# Altium integrated library Panasonic Relays Power Relays (Over 2A).IntLib: 286 symbols (part 2 of 8)
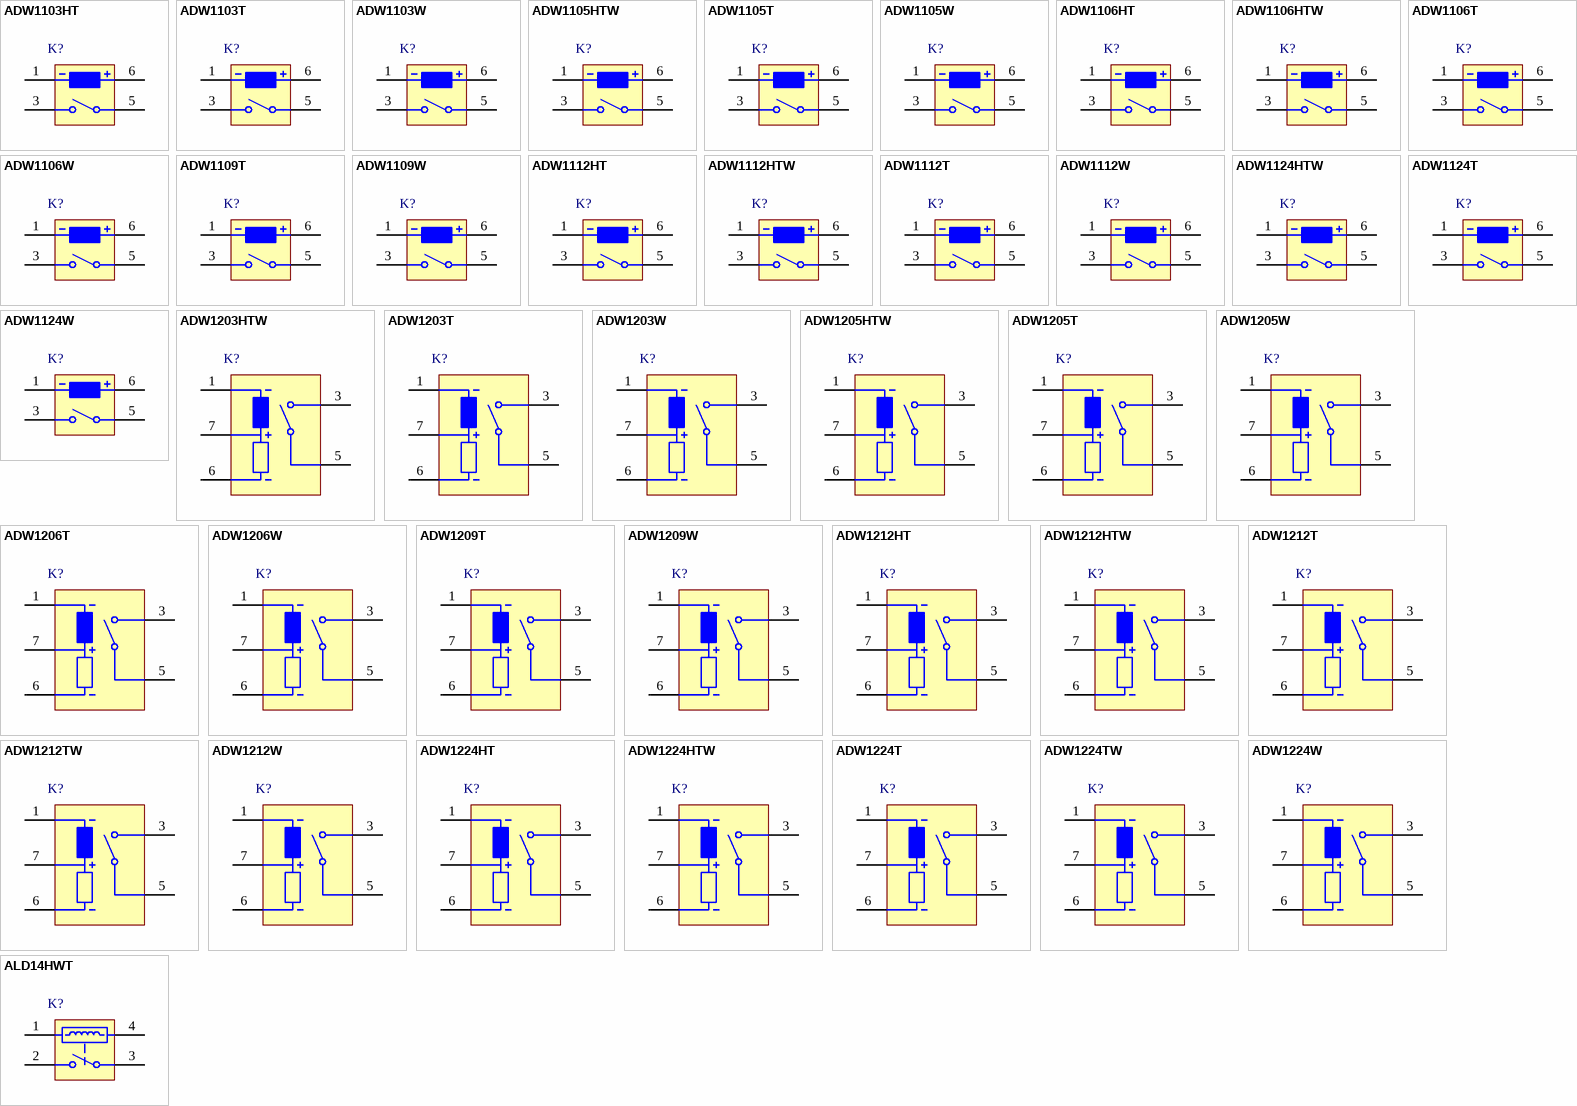
[diagram p8: symbols ADW1103HT to ALD14HWT]

## ALD14HWT
designator K?
LD Relays, 4.5 V Coil Voltage, 200 mW Nominal Operating Power, -40 to 70 degC, 4-Pin LD, Carton, Case, RoHS; Manufacturer: Panasonic; PartNumber: ALD14HWT; Coil Voltage: 4.5 V; Electrical Life: 2x10^5; Max Switching Current: 3 A; Max Switching Voltage: 277 V AC, 30 V DC; Mechanical Life(Min.operation): 5x10^6; Nominal Operating Power: 200 mW; Pb-Free: True; DatasheetVersion: 201309-T; PackageVersion: ASCTB192E, 09/2013; PackageReference: LD-4-2050x720x1530; PackageDescription: 4-Pin Through Hole Terminal Package, Body 20.5 x 7.2 mm; Packing: Carton, Case; RoHS: True; Series: LD Relays; Mounting Technology: Through Hole; ComponentLink1Description: Manufacturer URL; ComponentLink1URL: http://www3.panasonic.biz/ac/ae/index.jsp; ComponentLink2Description: Datasheet; ComponentLink2URL: http://www3.panasonic.biz/ac/e_download/control/relay/power/catalog/discon2014e_ld.pdf?f_cd=300232; ComponentLink3Description: Package Specification; ComponentLink3URL: http://www3.panasonic.biz/ac/e_download/control/relay/power/catalog/discon2014e_ld.pdf?f_cd=300232
footprint PNSC-LD-4-2050x720x1530_V (LD, 4-Leads, Body 20.5x7.2mm)
pins: 1, 2 NO, 3 COM, 4

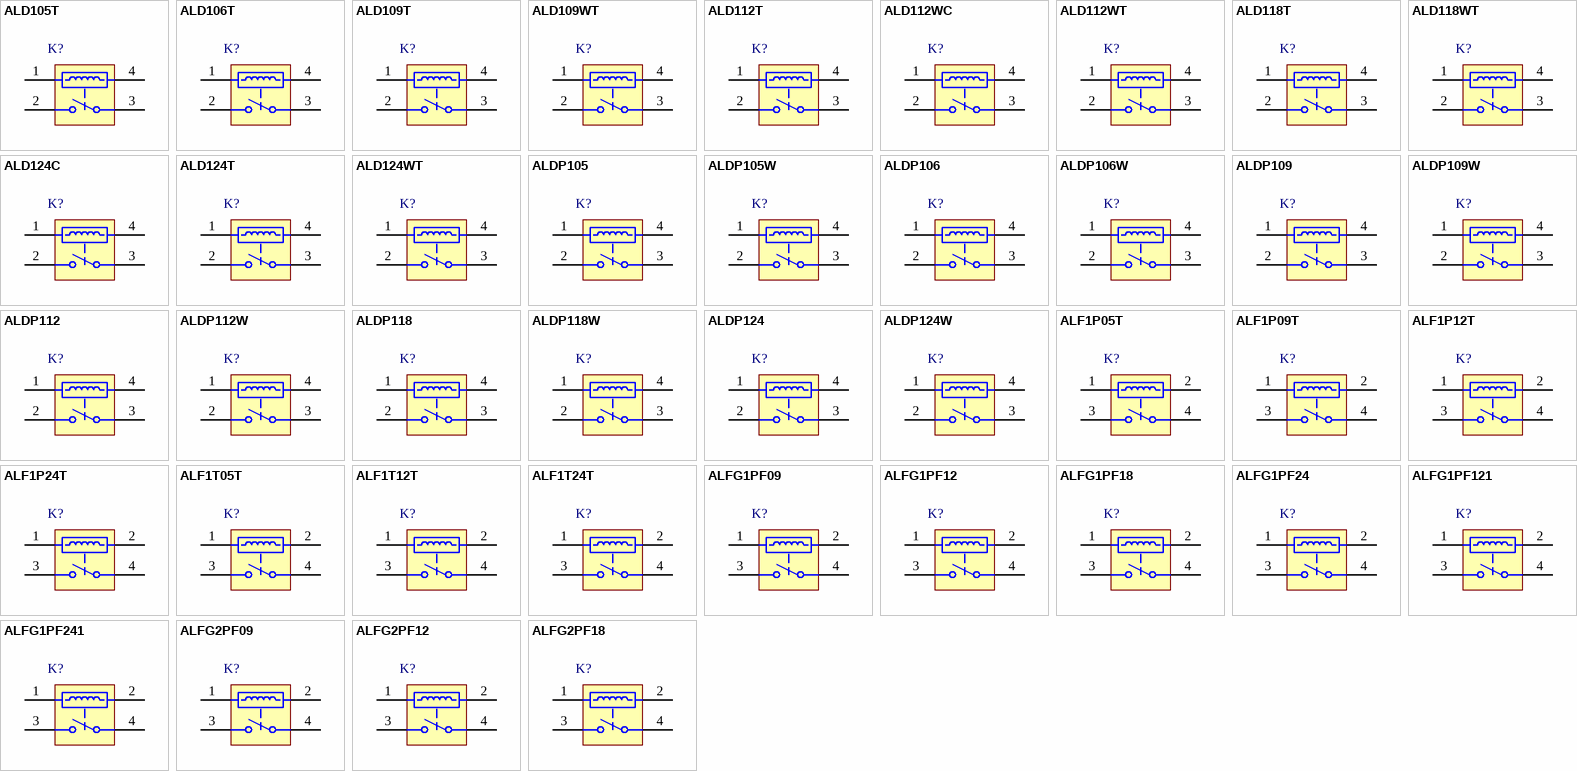
[diagram p1: symbols ALD105T to ALFG2PF18]

## ALD105T
designator K?
LD Relays, 5 V Coil Voltage, 200 mW Nominal Operating Power, -40 to 70 degC, 4-Pin LD, Carton, Case, RoHS; Manufacturer: Panasonic; PartNumber: ALD105T; Coil Voltage: 5 V; Electrical Life: 2x10^5; Max Switching Current: 3 A; Max Switching Voltage: 277 V AC, 30 V DC; Mechanical Life(Min.operation): 5x10^6; Nominal Operating Power: 200 mW; Pb-Free: True; DatasheetVersion: 201309-T; PackageVersion: ASCTB192E, 09/2013; PackageReference: LD-4-2050x720x1530; PackageDescription: 4-Pin Through Hole Terminal Package, Body 20.5 x 7.2 mm; Packing: Carton, Case; RoHS: True; Series: LD Relays; Mounting Technology: Through Hole; ComponentLink1Description: Manufacturer URL; ComponentLink1URL: http://www3.panasonic.biz/ac/ae/index.jsp; ComponentLink2Description: Datasheet; ComponentLink2URL: http://www3.panasonic.biz/ac/e_download/control/relay/power/catalog/discon2014e_ld.pdf?f_cd=300232; ComponentLink3Description: Package Specification; ComponentLink3URL: http://www3.panasonic.biz/ac/e_download/control/relay/power/catalog/discon2014e_ld.pdf?f_cd=300232
footprint PNSC-LD-4-2050x720x1530_V (LD, 4-Leads, Body 20.5x7.2mm)
pins: 1, 2 NO, 3 COM, 4

## ALD106T
designator K?
LD Relays, 6 V Coil Voltage, 200 mW Nominal Operating Power, -40 to 70 degC, 4-Pin LD, Carton, Case, RoHS; Manufacturer: Panasonic; PartNumber: ALD106T; Coil Voltage: 6 V; Electrical Life: 2x10^5; Max Switching Current: 3 A; Max Switching Voltage: 277 V AC, 30 V DC; Mechanical Life(Min.operation): 5x10^6; Nominal Operating Power: 200 mW; Pb-Free: True; DatasheetVersion: 201309-T; PackageVersion: ASCTB192E, 09/2013; PackageReference: LD-4-2050x720x1530; PackageDescription: 4-Pin Through Hole Terminal Package, Body 20.5 x 7.2 mm; Packing: Carton, Case; RoHS: True; Series: LD Relays; Mounting Technology: Through Hole; ComponentLink1Description: Manufacturer URL; ComponentLink1URL: http://www3.panasonic.biz/ac/ae/index.jsp; ComponentLink2Description: Datasheet; ComponentLink2URL: http://www3.panasonic.biz/ac/e_download/control/relay/power/catalog/discon2014e_ld.pdf?f_cd=300232; ComponentLink3Description: Package Specification; ComponentLink3URL: http://www3.panasonic.biz/ac/e_download/control/relay/power/catalog/discon2014e_ld.pdf?f_cd=300232
footprint PNSC-LD-4-2050x720x1530_V (LD, 4-Leads, Body 20.5x7.2mm)
pins: 1, 2 NO, 3 COM, 4

## ALD109T
designator K?
LD Relays, 9 V Coil Voltage, 200 mW Nominal Operating Power, -40 to 70 degC, 4-Pin LD, Carton, Case, RoHS; Manufacturer: Panasonic; PartNumber: ALD109T; Coil Voltage: 9 V; Electrical Life: 2x10^5; Max Switching Current: 3 A; Max Switching Voltage: 277 V AC, 30 V DC; Mechanical Life(Min.operation): 5x10^6; Nominal Operating Power: 200 mW; Pb-Free: True; DatasheetVersion: 201309-T; PackageVersion: ASCTB192E, 09/2013; PackageReference: LD-4-2050x720x1530; PackageDescription: 4-Pin Through Hole Terminal Package, Body 20.5 x 7.2 mm; Packing: Carton, Case; RoHS: True; Series: LD Relays; Mounting Technology: Through Hole; ComponentLink1Description: Manufacturer URL; ComponentLink1URL: http://www3.panasonic.biz/ac/ae/index.jsp; ComponentLink2Description: Datasheet; ComponentLink2URL: http://www3.panasonic.biz/ac/e_download/control/relay/power/catalog/discon2014e_ld.pdf?f_cd=300232; ComponentLink3Description: Package Specification; ComponentLink3URL: http://www3.panasonic.biz/ac/e_download/control/relay/power/catalog/discon2014e_ld.pdf?f_cd=300232
footprint PNSC-LD-4-2050x720x1530_V (LD, 4-Leads, Body 20.5x7.2mm)
pins: 1, 2 NO, 3 COM, 4

## ALD109WT
designator K?
LD Relays, 9 V Coil Voltage, 200 mW Nominal Operating Power, -40 to 70 degC, 4-Pin LD, Carton, Case, RoHS; Manufacturer: Panasonic; PartNumber: ALD109WT; Coil Voltage: 9 V; Electrical Life: 2x10^5; Max Switching Current: 3 A; Max Switching Voltage: 277 V AC, 30 V DC; Mechanical Life(Min.operation): 5x10^6; Nominal Operating Power: 200 mW; Pb-Free: True; DatasheetVersion: 201309-T; PackageVersion: ASCTB192E, 09/2013; PackageReference: LD-4-2050x720x1530; PackageDescription: 4-Pin Through Hole Terminal Package, Body 20.5 x 7.2 mm; Packing: Carton, Case; RoHS: True; Series: LD Relays; Mounting Technology: Through Hole; ComponentLink1Description: Manufacturer URL; ComponentLink1URL: http://www3.panasonic.biz/ac/ae/index.jsp; ComponentLink2Description: Datasheet; ComponentLink2URL: http://www3.panasonic.biz/ac/e_download/control/relay/power/catalog/discon2014e_ld.pdf?f_cd=300232; ComponentLink3Description: Package Specification; ComponentLink3URL: http://www3.panasonic.biz/ac/e_download/control/relay/power/catalog/discon2014e_ld.pdf?f_cd=300232
footprint PNSC-LD-4-2050x720x1530_V (LD, 4-Leads, Body 20.5x7.2mm)
pins: 1, 2 NO, 3 COM, 4

## ALD112T
designator K?
LD Relays, 12 V Coil Voltage, 200 mW Nominal Operating Power, -40 to 70 degC, 4-Pin LD, Carton, Case, RoHS; Manufacturer: Panasonic; PartNumber: ALD112T; Coil Voltage: 12 V; Electrical Life: 2x10^5; Max Switching Current: 3 A; Max Switching Voltage: 277 V AC, 30 V DC; Mechanical Life(Min.operation): 5x10^6; Nominal Operating Power: 200 mW; Pb-Free: True; DatasheetVersion: 201309-T; PackageVersion: ASCTB192E, 09/2013; PackageReference: LD-4-2050x720x1530; PackageDescription: 4-Pin Through Hole Terminal Package, Body 20.5 x 7.2 mm; Packing: Carton, Case; RoHS: True; Series: LD Relays; Mounting Technology: Through Hole; ComponentLink1Description: Manufacturer URL; ComponentLink1URL: http://www3.panasonic.biz/ac/ae/index.jsp; ComponentLink2Description: Datasheet; ComponentLink2URL: http://www3.panasonic.biz/ac/e_download/control/relay/power/catalog/discon2014e_ld.pdf?f_cd=300232; ComponentLink3Description: Package Specification; ComponentLink3URL: http://www3.panasonic.biz/ac/e_download/control/relay/power/catalog/discon2014e_ld.pdf?f_cd=300232
footprint PNSC-LD-4-2050x720x1530_V (LD, 4-Leads, Body 20.5x7.2mm)
pins: 1, 2 NO, 3 COM, 4

## ALD112WC
designator K?
LD Relays, 12 V Coil Voltage, 200 mW Nominal Operating Power, -40 to 70 degC, 4-Pin LD, Carton, Case, RoHS; Manufacturer: Panasonic; PartNumber: ALD112WC; Coil Voltage: 12 V; Electrical Life: 2x10^5; Max Switching Current: 3 A; Max Switching Voltage: 277 V AC, 30 V DC; Mechanical Life(Min.operation): 5x10^6; Nominal Operating Power: 200 mW; Pb-Free: True; DatasheetVersion: 201309-T; PackageVersion: ASCTB192E, 09/2013; PackageReference: LD-4-2050x720x1530; PackageDescription: 4-Pin Through Hole Terminal Package, Body 20.5 x 7.2 mm; Packing: Carton, Case; RoHS: True; Series: LD Relays; Mounting Technology: Through Hole; ComponentLink1Description: Manufacturer URL; ComponentLink1URL: http://www3.panasonic.biz/ac/ae/index.jsp; ComponentLink2Description: Datasheet; ComponentLink2URL: http://www3.panasonic.biz/ac/e_download/control/relay/power/catalog/discon2014e_ld.pdf?f_cd=300232; ComponentLink3Description: Package Specification; ComponentLink3URL: http://www3.panasonic.biz/ac/e_download/control/relay/power/catalog/discon2014e_ld.pdf?f_cd=300232
footprint PNSC-LD-4-2050x720x1530_V (LD, 4-Leads, Body 20.5x7.2mm)
pins: 1, 2 NO, 3 COM, 4

## ALD112WT
designator K?
LD Relays, 12 V Coil Voltage, 200 mW Nominal Operating Power, -40 to 70 degC, 4-Pin LD, Carton, Case, RoHS; Manufacturer: Panasonic; PartNumber: ALD112WT; Coil Voltage: 12 V; Electrical Life: 2x10^5; Max Switching Current: 3 A; Max Switching Voltage: 277 V AC, 30 V DC; Mechanical Life(Min.operation): 5x10^6; Nominal Operating Power: 200 mW; Pb-Free: True; DatasheetVersion: 201309-T; PackageVersion: ASCTB192E, 09/2013; PackageReference: LD-4-2050x720x1530; PackageDescription: 4-Pin Through Hole Terminal Package, Body 20.5 x 7.2 mm; Packing: Carton, Case; RoHS: True; Series: LD Relays; Mounting Technology: Through Hole; ComponentLink1Description: Manufacturer URL; ComponentLink1URL: http://www3.panasonic.biz/ac/ae/index.jsp; ComponentLink2Description: Datasheet; ComponentLink2URL: http://www3.panasonic.biz/ac/e_download/control/relay/power/catalog/discon2014e_ld.pdf?f_cd=300232; ComponentLink3Description: Package Specification; ComponentLink3URL: http://www3.panasonic.biz/ac/e_download/control/relay/power/catalog/discon2014e_ld.pdf?f_cd=300232
footprint PNSC-LD-4-2050x720x1530_V (LD, 4-Leads, Body 20.5x7.2mm)
pins: 1, 2 NO, 3 COM, 4

## ALD118T
designator K?
LD Relays, 18 V Coil Voltage, 200 mW Nominal Operating Power, -40 to 70 degC, 4-Pin LD, Carton, Case, RoHS; Manufacturer: Panasonic; PartNumber: ALD118T; Coil Voltage: 18 V; Electrical Life: 2x10^5; Max Switching Current: 3 A; Max Switching Voltage: 277 V AC, 30 V DC; Mechanical Life(Min.operation): 5x10^6; Nominal Operating Power: 200 mW; Pb-Free: True; DatasheetVersion: 201309-T; PackageVersion: ASCTB192E, 09/2013; PackageReference: LD-4-2050x720x1530; PackageDescription: 4-Pin Through Hole Terminal Package, Body 20.5 x 7.2 mm; Packing: Carton, Case; RoHS: True; Series: LD Relays; Mounting Technology: Through Hole; ComponentLink1Description: Manufacturer URL; ComponentLink1URL: http://www3.panasonic.biz/ac/ae/index.jsp; ComponentLink2Description: Datasheet; ComponentLink2URL: http://www3.panasonic.biz/ac/e_download/control/relay/power/catalog/discon2014e_ld.pdf?f_cd=300232; ComponentLink3Description: Package Specification; ComponentLink3URL: http://www3.panasonic.biz/ac/e_download/control/relay/power/catalog/discon2014e_ld.pdf?f_cd=300232
footprint PNSC-LD-4-2050x720x1530_V (LD, 4-Leads, Body 20.5x7.2mm)
pins: 1, 2 NO, 3 COM, 4

## ALD118WT
designator K?
LD Relays, 18 V Coil Voltage, 200 mW Nominal Operating Power, -40 to 70 degC, 4-Pin LD, Carton, Case, RoHS; Manufacturer: Panasonic; PartNumber: ALD118WT; Coil Voltage: 18 V; Electrical Life: 2x10^5; Max Switching Current: 3 A; Max Switching Voltage: 277 V AC, 30 V DC; Mechanical Life(Min.operation): 5x10^6; Nominal Operating Power: 200 mW; Pb-Free: True; DatasheetVersion: 201309-T; PackageVersion: ASCTB192E, 09/2013; PackageReference: LD-4-2050x720x1530; PackageDescription: 4-Pin Through Hole Terminal Package, Body 20.5 x 7.2 mm; Packing: Carton, Case; RoHS: True; Series: LD Relays; Mounting Technology: Through Hole; ComponentLink1Description: Manufacturer URL; ComponentLink1URL: http://www3.panasonic.biz/ac/ae/index.jsp; ComponentLink2Description: Datasheet; ComponentLink2URL: http://www3.panasonic.biz/ac/e_download/control/relay/power/catalog/discon2014e_ld.pdf?f_cd=300232; ComponentLink3Description: Package Specification; ComponentLink3URL: http://www3.panasonic.biz/ac/e_download/control/relay/power/catalog/discon2014e_ld.pdf?f_cd=300232
footprint PNSC-LD-4-2050x720x1530_V (LD, 4-Leads, Body 20.5x7.2mm)
pins: 1, 2 NO, 3 COM, 4

## ALD124C
designator K?
LD Relays, 24 V Coil Voltage, 200 mW Nominal Operating Power, -40 to 70 degC, 4-Pin LD, Carton, Case, RoHS; Manufacturer: Panasonic; PartNumber: ALD124C; Coil Voltage: 24 V; Electrical Life: 2x10^5; Max Switching Current: 3 A; Max Switching Voltage: 277 V AC, 30 V DC; Mechanical Life(Min.operation): 5x10^6; Nominal Operating Power: 200 mW; Pb-Free: True; DatasheetVersion: 201309-T; PackageVersion: ASCTB192E, 09/2013; PackageReference: LD-4-2050x720x1530; PackageDescription: 4-Pin Through Hole Terminal Package, Body 20.5 x 7.2 mm; Packing: Carton, Case; RoHS: True; Series: LD Relays; Mounting Technology: Through Hole; ComponentLink1Description: Manufacturer URL; ComponentLink1URL: http://www3.panasonic.biz/ac/ae/index.jsp; ComponentLink2Description: Datasheet; ComponentLink2URL: http://www3.panasonic.biz/ac/e_download/control/relay/power/catalog/discon2014e_ld.pdf?f_cd=300232; ComponentLink3Description: Package Specification; ComponentLink3URL: http://www3.panasonic.biz/ac/e_download/control/relay/power/catalog/discon2014e_ld.pdf?f_cd=300232
footprint PNSC-LD-4-2050x720x1530_V (LD, 4-Leads, Body 20.5x7.2mm)
pins: 1, 2 NO, 3 COM, 4

## ALD124T
designator K?
LD Relays, 24 V Coil Voltage, 200 mW Nominal Operating Power, -40 to 70 degC, 4-Pin LD, Carton, Case, RoHS; Manufacturer: Panasonic; PartNumber: ALD124T; Coil Voltage: 24 V; Electrical Life: 2x10^5; Max Switching Current: 3 A; Max Switching Voltage: 277 V AC, 30 V DC; Mechanical Life(Min.operation): 5x10^6; Nominal Operating Power: 200 mW; Pb-Free: True; DatasheetVersion: 201309-T; PackageVersion: ASCTB192E, 09/2013; PackageReference: LD-4-2050x720x1530; PackageDescription: 4-Pin Through Hole Terminal Package, Body 20.5 x 7.2 mm; Packing: Carton, Case; RoHS: True; Series: LD Relays; Mounting Technology: Through Hole; ComponentLink1Description: Manufacturer URL; ComponentLink1URL: http://www3.panasonic.biz/ac/ae/index.jsp; ComponentLink2Description: Datasheet; ComponentLink2URL: http://www3.panasonic.biz/ac/e_download/control/relay/power/catalog/discon2014e_ld.pdf?f_cd=300232; ComponentLink3Description: Package Specification; ComponentLink3URL: http://www3.panasonic.biz/ac/e_download/control/relay/power/catalog/discon2014e_ld.pdf?f_cd=300232
footprint PNSC-LD-4-2050x720x1530_V (LD, 4-Leads, Body 20.5x7.2mm)
pins: 1, 2 NO, 3 COM, 4

## ALD124WT
designator K?
LD Relays, 24 V Coil Voltage, 200 mW Nominal Operating Power, -40 to 70 degC, 4-Pin LD, Carton, Case, RoHS; Manufacturer: Panasonic; PartNumber: ALD124WT; Coil Voltage: 24 V; Electrical Life: 2x10^5; Max Switching Current: 3 A; Max Switching Voltage: 277 V AC, 30 V DC; Mechanical Life(Min.operation): 5x10^6; Nominal Operating Power: 200 mW; Pb-Free: True; DatasheetVersion: 201309-T; PackageVersion: ASCTB192E, 09/2013; PackageReference: LD-4-2050x720x1530; PackageDescription: 4-Pin Through Hole Terminal Package, Body 20.5 x 7.2 mm; Packing: Carton, Case; RoHS: True; Series: LD Relays; Mounting Technology: Through Hole; ComponentLink1Description: Manufacturer URL; ComponentLink1URL: http://www3.panasonic.biz/ac/ae/index.jsp; ComponentLink2Description: Datasheet; ComponentLink2URL: http://www3.panasonic.biz/ac/e_download/control/relay/power/catalog/discon2014e_ld.pdf?f_cd=300232; ComponentLink3Description: Package Specification; ComponentLink3URL: http://www3.panasonic.biz/ac/e_download/control/relay/power/catalog/discon2014e_ld.pdf?f_cd=300232
footprint PNSC-LD-4-2050x720x1530_V (LD, 4-Leads, Body 20.5x7.2mm)
pins: 1, 2 NO, 3 COM, 4

## ALDP105
designator K?
LD-P Relays, 5 V Coil Voltage, 200 mW Nominal Operating Power, -40 to 85 degC, 4-Pin LD-P, Carton, Case, RoHS; Manufacturer: Panasonic; PartNumber: ALDP105; Coil Voltage: 5 V; Electrical Life: 2x10^5; Max Switching Current: 5 A AC, 3 A DC; Max Switching Voltage: 277 V AC, 30 V DC; Mechanical Life(Min.operation): 5x10^6; Nominal Operating Power: 200 mW; Pb-Free: True; DatasheetVersion: 201402-T; PackageVersion: ASCTB193E, 02/2014; PackageReference: LD-P-4-2050x720x1530; PackageDescription: 4-Pin Through Hole Terminal Package, Body 20.5 x 7.2 mm; Supplier 1: Mouser; Supplier Part Number 1: N/A; Packing: Carton, Case; RoHS: True; Series: LD-P Relays; Mounting Technology: Through Hole; ComponentLink1Description: Manufacturer URL; ComponentLink1URL: http://www3.panasonic.biz/ac/ae/index.jsp; ComponentLink2Description: Datasheet; ComponentLink2URL: http://www3.panasonic.biz/ac/e_download/control/relay/power/catalog/mech_eng_ldp.pdf?f_cd=300242; ComponentLink3Description: Package Specification; ComponentLink3URL: http://www3.panasonic.biz/ac/e_download/control/relay/power/catalog/mech_eng_ldp.pdf?f_cd=300242
footprint PNSC-LD-P-4-2050x720x1530_V (LD-P, 4-Leads, Body 20.5x7.2mm)
pins: 1, 2 NO, 3 COM, 4

## ALDP105W
designator K?
LD-P Relays, 5 V Coil Voltage, 200 mW Nominal Operating Power, -40 to 85 degC, 4-Pin LD-P, Carton, Case, RoHS; Manufacturer: Panasonic; PartNumber: ALDP105W; Coil Voltage: 5 V; Electrical Life: 2x10^5; Max Switching Current: 5 A AC, 3 A DC; Max Switching Voltage: 277 V AC, 30 V DC; Mechanical Life(Min.operation): 5x10^6; Nominal Operating Power: 200 mW; Pb-Free: True; DatasheetVersion: 201402-T; PackageVersion: ASCTB193E, 02/2014; PackageReference: LD-P-4-2050x720x1530; PackageDescription: 4-Pin Through Hole Terminal Package, Body 20.5 x 7.2 mm; Supplier 1: Mouser; Supplier Part Number 1: 769-ALDP105W; Supplier 2: Digi-Key; Supplier Part Number 2: 255-3586-ND; Packing: Carton, Case; RoHS: True; Series: LD-P Relays; Mounting Technology: Through Hole; ComponentLink1Description: Manufacturer URL; ComponentLink1URL: http://www3.panasonic.biz/ac/ae/index.jsp; ComponentLink2Description: Datasheet; ComponentLink2URL: http://www3.panasonic.biz/ac/e_download/control/relay/power/catalog/mech_eng_ldp.pdf?f_cd=300242; ComponentLink3Description: Package Specification; ComponentLink3URL: http://www3.panasonic.biz/ac/e_download/control/relay/power/catalog/mech_eng_ldp.pdf?f_cd=300242
footprint PNSC-LD-P-4-2050x720x1530_V (LD-P, 4-Leads, Body 20.5x7.2mm)
pins: 1, 2 NO, 3 COM, 4

## ALDP106
designator K?
LD-P Relays, 6 V Coil Voltage, 200 mW Nominal Operating Power, -40 to 85 degC, 4-Pin LD-P, Carton, Case, RoHS; Manufacturer: Panasonic; PartNumber: ALDP106; Coil Voltage: 6 V; Electrical Life: 2x10^5; Max Switching Current: 5 A AC, 3 A DC; Max Switching Voltage: 277 V AC, 30 V DC; Mechanical Life(Min.operation): 5x10^6; Nominal Operating Power: 200 mW; Pb-Free: True; DatasheetVersion: 201402-T; PackageVersion: ASCTB193E, 02/2014; PackageReference: LD-P-4-2050x720x1530; PackageDescription: 4-Pin Through Hole Terminal Package, Body 20.5 x 7.2 mm; Supplier 1: Mouser; Supplier Part Number 1: N/A; Packing: Carton, Case; RoHS: True; Series: LD-P Relays; Mounting Technology: Through Hole; ComponentLink1Description: Manufacturer URL; ComponentLink1URL: http://www3.panasonic.biz/ac/ae/index.jsp; ComponentLink2Description: Datasheet; ComponentLink2URL: http://www3.panasonic.biz/ac/e_download/control/relay/power/catalog/mech_eng_ldp.pdf?f_cd=300242; ComponentLink3Description: Package Specification; ComponentLink3URL: http://www3.panasonic.biz/ac/e_download/control/relay/power/catalog/mech_eng_ldp.pdf?f_cd=300242
footprint PNSC-LD-P-4-2050x720x1530_V (LD-P, 4-Leads, Body 20.5x7.2mm)
pins: 1, 2 NO, 3 COM, 4

## ALDP106W
designator K?
LD-P Relays, 6 V Coil Voltage, 200 mW Nominal Operating Power, -40 to 85 degC, 4-Pin LD-P, Carton, Case, RoHS; Manufacturer: Panasonic; PartNumber: ALDP106W; Coil Voltage: 6 V; Electrical Life: 2x10^5; Max Switching Current: 5 A AC, 3 A DC; Max Switching Voltage: 277 V AC, 30 V DC; Mechanical Life(Min.operation): 5x10^6; Nominal Operating Power: 200 mW; Pb-Free: True; DatasheetVersion: 201402-T; PackageVersion: ASCTB193E, 02/2014; PackageReference: LD-P-4-2050x720x1530; PackageDescription: 4-Pin Through Hole Terminal Package, Body 20.5 x 7.2 mm; Supplier 1: Mouser; Supplier Part Number 1: 769-ALDP106W; Supplier 2: Digi-Key; Supplier Part Number 2: 255-3587-ND; Packing: Carton, Case; RoHS: True; Series: LD-P Relays; Mounting Technology: Through Hole; ComponentLink1Description: Manufacturer URL; ComponentLink1URL: http://www3.panasonic.biz/ac/ae/index.jsp; ComponentLink2Description: Datasheet; ComponentLink2URL: http://www3.panasonic.biz/ac/e_download/control/relay/power/catalog/mech_eng_ldp.pdf?f_cd=300242; ComponentLink3Description: Package Specification; ComponentLink3URL: http://www3.panasonic.biz/ac/e_download/control/relay/power/catalog/mech_eng_ldp.pdf?f_cd=300242
footprint PNSC-LD-P-4-2050x720x1530_V (LD-P, 4-Leads, Body 20.5x7.2mm)
pins: 1, 2 NO, 3 COM, 4

## ALDP109
designator K?
LD-P Relays, 9 V Coil Voltage, 200 mW Nominal Operating Power, -40 to 85 degC, 4-Pin LD-P, Carton, Case, RoHS; Manufacturer: Panasonic; PartNumber: ALDP109; Coil Voltage: 9 V; Electrical Life: 2x10^5; Max Switching Current: 5 A AC, 3 A DC; Max Switching Voltage: 277 V AC, 30 V DC; Mechanical Life(Min.operation): 5x10^6; Nominal Operating Power: 200 mW; Pb-Free: True; DatasheetVersion: 201402-T; PackageVersion: ASCTB193E, 02/2014; PackageReference: LD-P-4-2050x720x1530; PackageDescription: 4-Pin Through Hole Terminal Package, Body 20.5 x 7.2 mm; Supplier 1: Mouser; Supplier Part Number 1: N/A; Packing: Carton, Case; RoHS: True; Series: LD-P Relays; Mounting Technology: Through Hole; ComponentLink1Description: Manufacturer URL; ComponentLink1URL: http://www3.panasonic.biz/ac/ae/index.jsp; ComponentLink2Description: Datasheet; ComponentLink2URL: http://www3.panasonic.biz/ac/e_download/control/relay/power/catalog/mech_eng_ldp.pdf?f_cd=300242; ComponentLink3Description: Package Specification; ComponentLink3URL: http://www3.panasonic.biz/ac/e_download/control/relay/power/catalog/mech_eng_ldp.pdf?f_cd=300242
footprint PNSC-LD-P-4-2050x720x1530_V (LD-P, 4-Leads, Body 20.5x7.2mm)
pins: 1, 2 NO, 3 COM, 4

## ALDP109W
designator K?
LD-P Relays, 9 V Coil Voltage, 200 mW Nominal Operating Power, -40 to 85 degC, 4-Pin LD-P, Carton, Case, RoHS; Manufacturer: Panasonic; PartNumber: ALDP109W; Coil Voltage: 9 V; Electrical Life: 2x10^5; Max Switching Current: 5 A AC, 3 A DC; Max Switching Voltage: 277 V AC, 30 V DC; Mechanical Life(Min.operation): 5x10^6; Nominal Operating Power: 200 mW; Pb-Free: True; DatasheetVersion: 201402-T; PackageVersion: ASCTB193E, 02/2014; PackageReference: LD-P-4-2050x720x1530; PackageDescription: 4-Pin Through Hole Terminal Package, Body 20.5 x 7.2 mm; Supplier 1: Mouser; Supplier Part Number 1: 769-ALDP109W; Supplier 2: Digi-Key; Supplier Part Number 2: 255-3588-ND; Packing: Carton, Case; RoHS: True; Series: LD-P Relays; Mounting Technology: Through Hole; ComponentLink1Description: Manufacturer URL; ComponentLink1URL: http://www3.panasonic.biz/ac/ae/index.jsp; ComponentLink2Description: Datasheet; ComponentLink2URL: http://www3.panasonic.biz/ac/e_download/control/relay/power/catalog/mech_eng_ldp.pdf?f_cd=300242; ComponentLink3Description: Package Specification; ComponentLink3URL: http://www3.panasonic.biz/ac/e_download/control/relay/power/catalog/mech_eng_ldp.pdf?f_cd=300242
footprint PNSC-LD-P-4-2050x720x1530_V (LD-P, 4-Leads, Body 20.5x7.2mm)
pins: 1, 2 NO, 3 COM, 4

## ALDP112
designator K?
LD-P Relays, 12 V Coil Voltage, 200 mW Nominal Operating Power, -40 to 85 degC, 4-Pin LD-P, Carton, Case, RoHS; Manufacturer: Panasonic; PartNumber: ALDP112; Coil Voltage: 12 V; Electrical Life: 2x10^5; Max Switching Current: 5 A AC, 3 A DC; Max Switching Voltage: 277 V AC, 30 V DC; Mechanical Life(Min.operation): 5x10^6; Nominal Operating Power: 200 mW; Pb-Free: True; DatasheetVersion: 201402-T; PackageVersion: ASCTB193E, 02/2014; PackageReference: LD-P-4-2050x720x1530; PackageDescription: 4-Pin Through Hole Terminal Package, Body 20.5 x 7.2 mm; Supplier 1: Mouser; Supplier Part Number 1: N/A; Packing: Carton, Case; RoHS: True; Series: LD-P Relays; Mounting Technology: Through Hole; ComponentLink1Description: Manufacturer URL; ComponentLink1URL: http://www3.panasonic.biz/ac/ae/index.jsp; ComponentLink2Description: Datasheet; ComponentLink2URL: http://www3.panasonic.biz/ac/e_download/control/relay/power/catalog/mech_eng_ldp.pdf?f_cd=300242; ComponentLink3Description: Package Specification; ComponentLink3URL: http://www3.panasonic.biz/ac/e_download/control/relay/power/catalog/mech_eng_ldp.pdf?f_cd=300242
footprint PNSC-LD-P-4-2050x720x1530_V (LD-P, 4-Leads, Body 20.5x7.2mm)
pins: 1, 2 NO, 3 COM, 4

## ALDP112W
designator K?
LD-P Relays, 12 V Coil Voltage, 200 mW Nominal Operating Power, -40 to 85 degC, 4-Pin LD-P, Carton, Case, RoHS; Manufacturer: Panasonic; PartNumber: ALDP112W; Coil Voltage: 12 V; Electrical Life: 2x10^5; Max Switching Current: 5 A AC, 3 A DC; Max Switching Voltage: 277 V AC, 30 V DC; Mechanical Life(Min.operation): 5x10^6; Nominal Operating Power: 200 mW; Pb-Free: True; DatasheetVersion: 201402-T; PackageVersion: ASCTB193E, 02/2014; PackageReference: LD-P-4-2050x720x1530; PackageDescription: 4-Pin Through Hole Terminal Package, Body 20.5 x 7.2 mm; Supplier 1: Mouser; Supplier Part Number 1: 769-ALDP112W; Supplier 2: Digi-Key; Supplier Part Number 2: 255-3589-ND; Packing: Carton, Case; RoHS: True; Series: LD-P Relays; Mounting Technology: Through Hole; ComponentLink1Description: Manufacturer URL; ComponentLink1URL: http://www3.panasonic.biz/ac/ae/index.jsp; ComponentLink2Description: Datasheet; ComponentLink2URL: http://www3.panasonic.biz/ac/e_download/control/relay/power/catalog/mech_eng_ldp.pdf?f_cd=300242; ComponentLink3Description: Package Specification; ComponentLink3URL: http://www3.panasonic.biz/ac/e_download/control/relay/power/catalog/mech_eng_ldp.pdf?f_cd=300242
footprint PNSC-LD-P-4-2050x720x1530_V (LD-P, 4-Leads, Body 20.5x7.2mm)
pins: 1, 2 NO, 3 COM, 4

## ALDP118
designator K?
LD-P Relays, 18 V Coil Voltage, 200 mW Nominal Operating Power, -40 to 85 degC, 4-Pin LD-P, Carton, Case, RoHS; Manufacturer: Panasonic; PartNumber: ALDP118; Coil Voltage: 18 V; Electrical Life: 2x10^5; Max Switching Current: 5 A AC, 3 A DC; Max Switching Voltage: 277 V AC, 30 V DC; Mechanical Life(Min.operation): 5x10^6; Nominal Operating Power: 200 mW; Pb-Free: True; DatasheetVersion: 201402-T; PackageVersion: ASCTB193E, 02/2014; PackageReference: LD-P-4-2050x720x1530; PackageDescription: 4-Pin Through Hole Terminal Package, Body 20.5 x 7.2 mm; Supplier 1: Mouser; Supplier Part Number 1: N/A; Packing: Carton, Case; RoHS: True; Series: LD-P Relays; Mounting Technology: Through Hole; ComponentLink1Description: Manufacturer URL; ComponentLink1URL: http://www3.panasonic.biz/ac/ae/index.jsp; ComponentLink2Description: Datasheet; ComponentLink2URL: http://www3.panasonic.biz/ac/e_download/control/relay/power/catalog/mech_eng_ldp.pdf?f_cd=300242; ComponentLink3Description: Package Specification; ComponentLink3URL: http://www3.panasonic.biz/ac/e_download/control/relay/power/catalog/mech_eng_ldp.pdf?f_cd=300242
footprint PNSC-LD-P-4-2050x720x1530_V (LD-P, 4-Leads, Body 20.5x7.2mm)
pins: 1, 2 NO, 3 COM, 4

## ALDP118W
designator K?
LD-P Relays, 18 V Coil Voltage, 200 mW Nominal Operating Power, -40 to 85 degC, 4-Pin LD-P, Carton, Case, RoHS; Manufacturer: Panasonic; PartNumber: ALDP118W; Coil Voltage: 18 V; Electrical Life: 2x10^5; Max Switching Current: 5 A AC, 3 A DC; Max Switching Voltage: 277 V AC, 30 V DC; Mechanical Life(Min.operation): 5x10^6; Nominal Operating Power: 200 mW; Pb-Free: True; DatasheetVersion: 201402-T; PackageVersion: ASCTB193E, 02/2014; PackageReference: LD-P-4-2050x720x1530; PackageDescription: 4-Pin Through Hole Terminal Package, Body 20.5 x 7.2 mm; Supplier 1: Mouser; Supplier Part Number 1: 769-ALDP118W; Supplier 2: Digi-Key; Supplier Part Number 2: ALDP118W-ND; Packing: Carton, Case; RoHS: True; Series: LD-P Relays; Mounting Technology: Through Hole; ComponentLink1Description: Manufacturer URL; ComponentLink1URL: http://www3.panasonic.biz/ac/ae/index.jsp; ComponentLink2Description: Datasheet; ComponentLink2URL: http://www3.panasonic.biz/ac/e_download/control/relay/power/catalog/mech_eng_ldp.pdf?f_cd=300242; ComponentLink3Description: Package Specification; ComponentLink3URL: http://www3.panasonic.biz/ac/e_download/control/relay/power/catalog/mech_eng_ldp.pdf?f_cd=300242
footprint PNSC-LD-P-4-2050x720x1530_V (LD-P, 4-Leads, Body 20.5x7.2mm)
pins: 1, 2 NO, 3 COM, 4

## ALDP124
designator K?
LD-P Relays, 24 V Coil Voltage, 200 mW Nominal Operating Power, -40 to 85 degC, 4-Pin LD-P, Carton, Case, RoHS; Manufacturer: Panasonic; PartNumber: ALDP124; Coil Voltage: 24 V; Electrical Life: 2x10^5; Max Switching Current: 5 A AC, 3 A DC; Max Switching Voltage: 277 V AC, 30 V DC; Mechanical Life(Min.operation): 5x10^6; Nominal Operating Power: 200 mW; Pb-Free: True; DatasheetVersion: 201402-T; PackageVersion: ASCTB193E, 02/2014; PackageReference: LD-P-4-2050x720x1530; PackageDescription: 4-Pin Through Hole Terminal Package, Body 20.5 x 7.2 mm; Supplier 1: Digi-Key; Supplier Part Number 1: ALDP124-ND; Packing: Carton, Case; RoHS: True; Series: LD-P Relays; Mounting Technology: Through Hole; ComponentLink1Description: Manufacturer URL; ComponentLink1URL: http://www3.panasonic.biz/ac/ae/index.jsp; ComponentLink2Description: Datasheet; ComponentLink2URL: http://www3.panasonic.biz/ac/e_download/control/relay/power/catalog/mech_eng_ldp.pdf?f_cd=300242; ComponentLink3Description: Package Specification; ComponentLink3URL: http://www3.panasonic.biz/ac/e_download/control/relay/power/catalog/mech_eng_ldp.pdf?f_cd=300242
footprint PNSC-LD-P-4-2050x720x1530_V (LD-P, 4-Leads, Body 20.5x7.2mm)
pins: 1, 2 NO, 3 COM, 4

## ALDP124W
designator K?
LD-P Relays, 24 V Coil Voltage, 200 mW Nominal Operating Power, -40 to 85 degC, 4-Pin LD-P, Carton, Case, RoHS; Manufacturer: Panasonic; PartNumber: ALDP124W; Coil Voltage: 24 V; Electrical Life: 2x10^5; Max Switching Current: 5 A AC, 3 A DC; Max Switching Voltage: 277 V AC, 30 V DC; Mechanical Life(Min.operation): 5x10^6; Nominal Operating Power: 200 mW; Pb-Free: True; DatasheetVersion: 201402-T; PackageVersion: ASCTB193E, 02/2014; PackageReference: LD-P-4-2050x720x1530; PackageDescription: 4-Pin Through Hole Terminal Package, Body 20.5 x 7.2 mm; Supplier 1: Mouser; Supplier Part Number 1: 769-ALDP124W; Supplier 2: Digi-Key; Supplier Part Number 2: 255-3590-ND; Packing: Carton, Case; RoHS: True; Series: LD-P Relays; Mounting Technology: Through Hole; ComponentLink1Description: Manufacturer URL; ComponentLink1URL: http://www3.panasonic.biz/ac/ae/index.jsp; ComponentLink2Description: Datasheet; ComponentLink2URL: http://www3.panasonic.biz/ac/e_download/control/relay/power/catalog/mech_eng_ldp.pdf?f_cd=300242; ComponentLink3Description: Package Specification; ComponentLink3URL: http://www3.panasonic.biz/ac/e_download/control/relay/power/catalog/mech_eng_ldp.pdf?f_cd=300242
footprint PNSC-LD-P-4-2050x720x1530_V (LD-P, 4-Leads, Body 20.5x7.2mm)
pins: 1, 2 NO, 3 COM, 4

## ALF1P05T
designator K?
LF Relays, 5 V Coil Voltage, 900 mW Nominal Operating Power, -40 to 60 degC, 4-Pin LF, Carton, Case, RoHS; Manufacturer: Panasonic; PartNumber: ALF1P05T; Coil Voltage: 5 V; Electrical Life: 1x10^5; Max Switching Current: 25 A; Max Switching Voltage: 250 V AC; Mechanical Life(Min.operation): 2x10^6; Nominal Operating Power: 900 mW; Pb-Free: True; DatasheetVersion: 201402-T; PackageVersion: ASCTB195E, 02/2014; PackageReference: LF-4-3010x1570x2330; PackageDescription: 4-Pin Through Hole Terminal Package, Body 30.1 x 15.7 mm; Supplier 1: Mouser; Supplier Part Number 1: N/A; Packing: Carton, Case; RoHS: True; Series: LF Relays; Mounting Technology: Through Hole; ComponentLink1Description: Manufacturer URL; ComponentLink1URL: http://www3.panasonic.biz/ac/ae/index.jsp; ComponentLink2Description: Datasheet; ComponentLink2URL: http://www3.panasonic.biz/ac/e_download/control/relay/power/catalog/mech_eng_lf.pdf?f_cd=300262; ComponentLink3Description: Package Specification; ComponentLink3URL: http://www3.panasonic.biz/ac/e_download/control/relay/power/catalog/mech_eng_lf.pdf?f_cd=300262
footprint PNSC-LF-4-3010x1570x2330_V (LF, 4-Leads, Body 30.1x15.7mm)
pins: 1, 2, 3 NO, 4 COM

## ALF1P09T
designator K?
LF Relays, 9 V Coil Voltage, 900 mW Nominal Operating Power, -40 to 60 degC, 4-Pin LF, Carton, Case, RoHS; Manufacturer: Panasonic; PartNumber: ALF1P09T; Coil Voltage: 9 V; Electrical Life: 1x10^5; Max Switching Current: 25 A; Max Switching Voltage: 250 V AC; Mechanical Life(Min.operation): 2x10^6; Nominal Operating Power: 900 mW; Pb-Free: True; DatasheetVersion: 201402-T; PackageVersion: ASCTB195E, 02/2014; PackageReference: LF-4-3010x1570x2330; PackageDescription: 4-Pin Through Hole Terminal Package, Body 30.1 x 15.7 mm; Supplier 1: Mouser; Supplier Part Number 1: N/A; Packing: Carton, Case; RoHS: True; Series: LF Relays; Mounting Technology: Through Hole; ComponentLink1Description: Manufacturer URL; ComponentLink1URL: http://www3.panasonic.biz/ac/ae/index.jsp; ComponentLink2Description: Datasheet; ComponentLink2URL: http://www3.panasonic.biz/ac/e_download/control/relay/power/catalog/mech_eng_lf.pdf?f_cd=300262; ComponentLink3Description: Package Specification; ComponentLink3URL: http://www3.panasonic.biz/ac/e_download/control/relay/power/catalog/mech_eng_lf.pdf?f_cd=300262
footprint PNSC-LF-4-3010x1570x2330_V (LF, 4-Leads, Body 30.1x15.7mm)
pins: 1, 2, 3 NO, 4 COM

## ALF1P12T
designator K?
LF Relays, 12 V Coil Voltage, 900 mW Nominal Operating Power, -40 to 60 degC, 4-Pin LF, Carton, Case, RoHS; Manufacturer: Panasonic; PartNumber: ALF1P12T; Coil Voltage: 12 V; Electrical Life: 1x10^5; Max Switching Current: 25 A; Max Switching Voltage: 250 V AC; Mechanical Life(Min.operation): 2x10^6; Nominal Operating Power: 900 mW; Pb-Free: True; DatasheetVersion: 201402-T; PackageVersion: ASCTB195E, 02/2014; PackageReference: LF-4-3010x1570x2330; PackageDescription: 4-Pin Through Hole Terminal Package, Body 30.1 x 15.7 mm; Supplier 1: Mouser; Supplier Part Number 1: N/A; Packing: Carton, Case; RoHS: True; Series: LF Relays; Mounting Technology: Through Hole; ComponentLink1Description: Manufacturer URL; ComponentLink1URL: http://www3.panasonic.biz/ac/ae/index.jsp; ComponentLink2Description: Datasheet; ComponentLink2URL: http://www3.panasonic.biz/ac/e_download/control/relay/power/catalog/mech_eng_lf.pdf?f_cd=300262; ComponentLink3Description: Package Specification; ComponentLink3URL: http://www3.panasonic.biz/ac/e_download/control/relay/power/catalog/mech_eng_lf.pdf?f_cd=300262
footprint PNSC-LF-4-3010x1570x2330_V (LF, 4-Leads, Body 30.1x15.7mm)
pins: 1, 2, 3 NO, 4 COM

## ALF1P24T
designator K?
LF Relays, 24 V Coil Voltage, 900 mW Nominal Operating Power, -40 to 60 degC, 4-Pin LF, Carton, Case, RoHS; Manufacturer: Panasonic; PartNumber: ALF1P24T; Coil Voltage: 24 V; Electrical Life: 1x10^5; Max Switching Current: 25 A; Max Switching Voltage: 250 V AC; Mechanical Life(Min.operation): 2x10^6; Nominal Operating Power: 900 mW; Pb-Free: True; DatasheetVersion: 201402-T; PackageVersion: ASCTB195E, 02/2014; PackageReference: LF-4-3010x1570x2330; PackageDescription: 4-Pin Through Hole Terminal Package, Body 30.1 x 15.7 mm; Supplier 1: Mouser; Supplier Part Number 1: N/A; Packing: Carton, Case; RoHS: True; Series: LF Relays; Mounting Technology: Through Hole; ComponentLink1Description: Manufacturer URL; ComponentLink1URL: http://www3.panasonic.biz/ac/ae/index.jsp; ComponentLink2Description: Datasheet; ComponentLink2URL: http://www3.panasonic.biz/ac/e_download/control/relay/power/catalog/mech_eng_lf.pdf?f_cd=300262; ComponentLink3Description: Package Specification; ComponentLink3URL: http://www3.panasonic.biz/ac/e_download/control/relay/power/catalog/mech_eng_lf.pdf?f_cd=300262
footprint PNSC-LF-4-3010x1570x2330_V (LF, 4-Leads, Body 30.1x15.7mm)
pins: 1, 2, 3 NO, 4 COM

## ALF1T05T
designator K?
LF Relays, 5 V Coil Voltage, 900 mW Nominal Operating Power, -40 to 60 degC, 4-Pin LF, Carton, Case, RoHS; Manufacturer: Panasonic; PartNumber: ALF1T05T; Coil Voltage: 5 V; Electrical Life: 1x10^5; Max Switching Current: 25 A; Max Switching Voltage: 250 V AC; Mechanical Life(Min.operation): 2x10^6; Nominal Operating Power: 900 mW; Pb-Free: True; DatasheetVersion: 201402-T; PackageVersion: ASCTB195E, 02/2014; PackageReference: LF-4-3010x1570x2330; PackageDescription: 4-Pin Through Hole Terminal Package, Body 30.1 x 15.7 mm; Supplier 1: Mouser; Supplier Part Number 1: N/A; Packing: Carton, Case; RoHS: True; Series: LF Relays; Mounting Technology: Through Hole; ComponentLink1Description: Manufacturer URL; ComponentLink1URL: http://www3.panasonic.biz/ac/ae/index.jsp; ComponentLink2Description: Datasheet; ComponentLink2URL: http://www3.panasonic.biz/ac/e_download/control/relay/power/catalog/mech_eng_lf.pdf?f_cd=300262; ComponentLink3Description: Package Specification; ComponentLink3URL: http://www3.panasonic.biz/ac/e_download/control/relay/power/catalog/mech_eng_lf.pdf?f_cd=300262
footprint PNSC-LF-4-3010x1570x2330_V (LF, 4-Leads, Body 30.1x15.7mm)
pins: 1, 2, 3 NO, 4 COM

## ALF1T12T
designator K?
LF Relays, 12 V Coil Voltage, 900 mW Nominal Operating Power, -40 to 60 degC, 4-Pin LF, Carton, Case, RoHS; Manufacturer: Panasonic; PartNumber: ALF1T12T; Coil Voltage: 12 V; Electrical Life: 1x10^5; Max Switching Current: 25 A; Max Switching Voltage: 250 V AC; Mechanical Life(Min.operation): 2x10^6; Nominal Operating Power: 900 mW; Pb-Free: True; DatasheetVersion: 201402-T; PackageVersion: ASCTB195E, 02/2014; PackageReference: LF-4-3010x1570x2330; PackageDescription: 4-Pin Through Hole Terminal Package, Body 30.1 x 15.7 mm; Supplier 1: Mouser; Supplier Part Number 1: N/A; Packing: Carton, Case; RoHS: True; Series: LF Relays; Mounting Technology: Through Hole; ComponentLink1Description: Manufacturer URL; ComponentLink1URL: http://www3.panasonic.biz/ac/ae/index.jsp; ComponentLink2Description: Datasheet; ComponentLink2URL: http://www3.panasonic.biz/ac/e_download/control/relay/power/catalog/mech_eng_lf.pdf?f_cd=300262; ComponentLink3Description: Package Specification; ComponentLink3URL: http://www3.panasonic.biz/ac/e_download/control/relay/power/catalog/mech_eng_lf.pdf?f_cd=300262
footprint PNSC-LF-4-3010x1570x2330_V (LF, 4-Leads, Body 30.1x15.7mm)
pins: 1, 2, 3 NO, 4 COM

## ALF1T24T
designator K?
LF Relays, 24 V Coil Voltage, 900 mW Nominal Operating Power, -40 to 60 degC, 4-Pin LF, Carton, Case, RoHS; Manufacturer: Panasonic; PartNumber: ALF1T24T; Coil Voltage: 24 V; Electrical Life: 1x10^5; Max Switching Current: 25 A; Max Switching Voltage: 250 V AC; Mechanical Life(Min.operation): 2x10^6; Nominal Operating Power: 900 mW; Pb-Free: True; DatasheetVersion: 201402-T; PackageVersion: ASCTB195E, 02/2014; PackageReference: LF-4-3010x1570x2330; PackageDescription: 4-Pin Through Hole Terminal Package, Body 30.1 x 15.7 mm; Supplier 1: Mouser; Supplier Part Number 1: N/A; Packing: Carton, Case; RoHS: True; Series: LF Relays; Mounting Technology: Through Hole; ComponentLink1Description: Manufacturer URL; ComponentLink1URL: http://www3.panasonic.biz/ac/ae/index.jsp; ComponentLink2Description: Datasheet; ComponentLink2URL: http://www3.panasonic.biz/ac/e_download/control/relay/power/catalog/mech_eng_lf.pdf?f_cd=300262; ComponentLink3Description: Package Specification; ComponentLink3URL: http://www3.panasonic.biz/ac/e_download/control/relay/power/catalog/mech_eng_lf.pdf?f_cd=300262
footprint PNSC-LF-4-3010x1570x2330_V (LF, 4-Leads, Body 30.1x15.7mm)
pins: 1, 2, 3 NO, 4 COM

## ALFG1PF09
designator K?
LF-G Relays, 9 V Coil Voltage, 1400 mW Nominal Operating Power, -40 to 85 degC, 4-Pin LF-G, Carton, Case, RoHS; Manufacturer: Panasonic; PartNumber: ALFG1PF09; Coil Voltage: 9 V; Electrical Life: 3x10^4; Max Switching Current: 22 A AC; Max Switching Voltage: 250 V AC; Mechanical Life(Min.operation): 1x10^6; Nominal Operating Power: 1400 mW; Pb-Free: True; DatasheetVersion: 201402-T; PackageVersion: ASCTB196E, 02/2014; PackageReference: LF-G-4-3010x1570x2330; PackageDescription: 4-Pin Through Hole Terminal Package, Body 30.1 x 15.7 mm; Supplier 1: Mouser; Supplier Part Number 1: 769-ALFG1PF09; Supplier 2: Digi-Key; Supplier Part Number 2: 255-2635-ND; Packing: Carton, Case; RoHS: True; Series: LF-G Relays; Mounting Technology: Through Hole; ComponentLink1Description: Manufacturer URL; ComponentLink1URL: http://www3.panasonic.biz/ac/ae/index.jsp; ComponentLink2Description: Datasheet; ComponentLink2URL: http://www3.panasonic.biz/ac/e_download/control/relay/power/catalog/mech_eng_lfg.pdf?f_cd=300272; ComponentLink3Description: Package Specification; ComponentLink3URL: http://www3.panasonic.biz/ac/e_download/control/relay/power/catalog/mech_eng_lfg.pdf?f_cd=300272
footprint PNSC-LF-G-4-3010x1570x2330_V (LF-G, 4-Leads, Body 30.1x15.7mm)
pins: 1, 2, 3 NO, 4 COM

## ALFG1PF12
designator K?
LF-G Relays, 12 V Coil Voltage, 1400 mW Nominal Operating Power, -40 to 85 degC, 4-Pin LF-G, Carton, Case, RoHS; Manufacturer: Panasonic; PartNumber: ALFG1PF12; Coil Voltage: 12 V; Electrical Life: 3x10^4; Max Switching Current: 22 A AC; Max Switching Voltage: 250 V AC; Mechanical Life(Min.operation): 1x10^6; Nominal Operating Power: 1400 mW; Pb-Free: True; DatasheetVersion: 201402-T; PackageVersion: ASCTB196E, 02/2014; PackageReference: LF-G-4-3010x1570x2330; PackageDescription: 4-Pin Through Hole Terminal Package, Body 30.1 x 15.7 mm; Supplier 1: Mouser; Supplier Part Number 1: 769-ALFG1PF12; Supplier 2: Digi-Key; Supplier Part Number 2: 255-2589-ND; Packing: Carton, Case; RoHS: True; Series: LF-G Relays; Mounting Technology: Through Hole; ComponentLink1Description: Manufacturer URL; ComponentLink1URL: http://www3.panasonic.biz/ac/ae/index.jsp; ComponentLink2Description: Datasheet; ComponentLink2URL: http://www3.panasonic.biz/ac/e_download/control/relay/power/catalog/mech_eng_lfg.pdf?f_cd=300272; ComponentLink3Description: Package Specification; ComponentLink3URL: http://www3.panasonic.biz/ac/e_download/control/relay/power/catalog/mech_eng_lfg.pdf?f_cd=300272
footprint PNSC-LF-G-4-3010x1570x2330_V (LF-G, 4-Leads, Body 30.1x15.7mm)
pins: 1, 2, 3 NO, 4 COM

## ALFG1PF18
designator K?
LF-G Relays, 18 V Coil Voltage, 1400 mW Nominal Operating Power, -40 to 85 degC, 4-Pin LF-G, Carton, Case, RoHS; Manufacturer: Panasonic; PartNumber: ALFG1PF18; Coil Voltage: 18 V; Electrical Life: 3x10^4; Max Switching Current: 22 A AC; Max Switching Voltage: 250 V AC; Mechanical Life(Min.operation): 1x10^6; Nominal Operating Power: 1400 mW; Pb-Free: True; DatasheetVersion: 201402-T; PackageVersion: ASCTB196E, 02/2014; PackageReference: LF-G-4-3010x1570x2330; PackageDescription: 4-Pin Through Hole Terminal Package, Body 30.1 x 15.7 mm; Supplier 1: Mouser; Supplier Part Number 1: 769-ALFG1PF18; Supplier 2: Digi-Key; Supplier Part Number 2: 255-2636-ND; Packing: Carton, Case; RoHS: True; Series: LF-G Relays; Mounting Technology: Through Hole; ComponentLink1Description: Manufacturer URL; ComponentLink1URL: http://www3.panasonic.biz/ac/ae/index.jsp; ComponentLink2Description: Datasheet; ComponentLink2URL: http://www3.panasonic.biz/ac/e_download/control/relay/power/catalog/mech_eng_lfg.pdf?f_cd=300272; ComponentLink3Description: Package Specification; ComponentLink3URL: http://www3.panasonic.biz/ac/e_download/control/relay/power/catalog/mech_eng_lfg.pdf?f_cd=300272
footprint PNSC-LF-G-4-3010x1570x2330_V (LF-G, 4-Leads, Body 30.1x15.7mm)
pins: 1, 2, 3 NO, 4 COM

## ALFG1PF24
designator K?
LF-G Relays, 24 V Coil Voltage, 1400 mW Nominal Operating Power, -40 to 85 degC, 4-Pin LF-G, Carton, Case, RoHS; Manufacturer: Panasonic; PartNumber: ALFG1PF24; Coil Voltage: 24 V; Electrical Life: 3x10^4; Max Switching Current: 22 A AC; Max Switching Voltage: 250 V AC; Mechanical Life(Min.operation): 1x10^6; Nominal Operating Power: 1400 mW; Pb-Free: True; DatasheetVersion: 201402-T; PackageVersion: ASCTB196E, 02/2014; PackageReference: LF-G-4-3010x1570x2330; PackageDescription: 4-Pin Through Hole Terminal Package, Body 30.1 x 15.7 mm; Supplier 1: Mouser; Supplier Part Number 1: 769-ALFG1PF24; Supplier 2: Digi-Key; Supplier Part Number 2: 255-2590-ND; Packing: Carton, Case; RoHS: True; Series: LF-G Relays; Mounting Technology: Through Hole; ComponentLink1Description: Manufacturer URL; ComponentLink1URL: http://www3.panasonic.biz/ac/ae/index.jsp; ComponentLink2Description: Datasheet; ComponentLink2URL: http://www3.panasonic.biz/ac/e_download/control/relay/power/catalog/mech_eng_lfg.pdf?f_cd=300272; ComponentLink3Description: Package Specification; ComponentLink3URL: http://www3.panasonic.biz/ac/e_download/control/relay/power/catalog/mech_eng_lfg.pdf?f_cd=300272
footprint PNSC-LF-G-4-3010x1570x2330_V (LF-G, 4-Leads, Body 30.1x15.7mm)
pins: 1, 2, 3 NO, 4 COM

## ALFG1PF121
designator K?
LF-G Relays, 12 V Coil Voltage, 1400 mW Nominal Operating Power, -40 to 85 degC, 4-Pin LF-G, Carton, Case, RoHS; Manufacturer: Panasonic; PartNumber: ALFG1PF121; Coil Voltage: 12 V; Electrical Life: 3x10^4; Max Switching Current: 22 A AC; Max Switching Voltage: 250 V AC; Mechanical Life(Min.operation): 5x10^5; Nominal Operating Power: 1400 mW; Pb-Free: True; DatasheetVersion: 201402-T; PackageVersion: ASCTB196E, 02/2014; PackageReference: LF-G-4-3010x1570x2330; PackageDescription: 4-Pin Through Hole Terminal Package, Body 30.1 x 15.7 mm; Supplier 1: Mouser; Supplier Part Number 1: 769-ALFG1PF121; Supplier 2: Mouser; Supplier Part Number 2: N/A; Supplier 3: Digi-Key; Supplier Part Number 3: ALFG1PF121-ND; Packing: Carton, Case; RoHS: True; Series: LF-G Relays; Mounting Technology: Through Hole; ComponentLink1Description: Manufacturer URL; ComponentLink1URL: http://www3.panasonic.biz/ac/ae/index.jsp; ComponentLink2Description: Datasheet; ComponentLink2URL: http://www3.panasonic.biz/ac/e_download/control/relay/power/catalog/mech_eng_lfg.pdf?f_cd=300272; ComponentLink3Description: Package Specification; ComponentLink3URL: http://www3.panasonic.biz/ac/e_download/control/relay/power/catalog/mech_eng_lfg.pdf?f_cd=300272
footprint PNSC-LF-G-4-3010x1570x2330_V (LF-G, 4-Leads, Body 30.1x15.7mm)
pins: 1, 2, 3 NO, 4 COM

## ALFG1PF241
designator K?
LF-G Relays, 24 V Coil Voltage, 1400 mW Nominal Operating Power, -40 to 85 degC, 4-Pin LF-G, Carton, Case, RoHS; Manufacturer: Panasonic; PartNumber: ALFG1PF241; Coil Voltage: 24 V; Electrical Life: 3x10^4; Max Switching Current: 22 A AC; Max Switching Voltage: 250 V AC; Mechanical Life(Min.operation): 5x10^5; Nominal Operating Power: 1400 mW; Pb-Free: True; DatasheetVersion: 201402-T; PackageVersion: ASCTB196E, 02/2014; PackageReference: LF-G-4-3010x1570x2330; PackageDescription: 4-Pin Through Hole Terminal Package, Body 30.1 x 15.7 mm; Supplier 1: Mouser; Supplier Part Number 1: 769-ALFG1PF241; Supplier 2: Digi-Key; Supplier Part Number 2: ALFG1PF241-ND; Packing: Carton, Case; RoHS: True; Series: LF-G Relays; Mounting Technology: Through Hole; ComponentLink1Description: Manufacturer URL; ComponentLink1URL: http://www3.panasonic.biz/ac/ae/index.jsp; ComponentLink2Description: Datasheet; ComponentLink2URL: http://www3.panasonic.biz/ac/e_download/control/relay/power/catalog/mech_eng_lfg.pdf?f_cd=300272; ComponentLink3Description: Package Specification; ComponentLink3URL: http://www3.panasonic.biz/ac/e_download/control/relay/power/catalog/mech_eng_lfg.pdf?f_cd=300272
footprint PNSC-LF-G-4-3010x1570x2330_V (LF-G, 4-Leads, Body 30.1x15.7mm)
pins: 1, 2, 3 NO, 4 COM

## ALFG2PF09
designator K?
LF-G Relays, 9 V Coil Voltage, 1400 mW Nominal Operating Power, -40 to 85 degC, 4-Pin LF-G, Carton, Case, RoHS; Manufacturer: Panasonic; PartNumber: ALFG2PF09; Coil Voltage: 9 V; Electrical Life: 3x10^4; Max Switching Current: 31 A AC; Max Switching Voltage: 250 V AC; Mechanical Life(Min.operation): 1x10^6; Nominal Operating Power: 1400 mW; Pb-Free: True; DatasheetVersion: 201402-T; PackageVersion: ASCTB196E, 02/2014; PackageReference: LF-G-4-3010x1570x2330; PackageDescription: 4-Pin Through Hole Terminal Package, Body 30.1 x 15.7 mm; Supplier 1: Mouser; Supplier Part Number 1: 769-ALFG2PF09; Supplier 2: Digi-Key; Supplier Part Number 2: 255-2637-ND; Packing: Carton, Case; RoHS: True; Series: LF-G Relays; Mounting Technology: Through Hole; ComponentLink1Description: Manufacturer URL; ComponentLink1URL: http://www3.panasonic.biz/ac/ae/index.jsp; ComponentLink2Description: Datasheet; ComponentLink2URL: http://www3.panasonic.biz/ac/e_download/control/relay/power/catalog/mech_eng_lfg.pdf?f_cd=300272; ComponentLink3Description: Package Specification; ComponentLink3URL: http://www3.panasonic.biz/ac/e_download/control/relay/power/catalog/mech_eng_lfg.pdf?f_cd=300272
footprint PNSC-LF-G-4-3010x1570x2330_V (LF-G, 4-Leads, Body 30.1x15.7mm)
pins: 1, 2, 3 NO, 4 COM

## ALFG2PF12
designator K?
LF-G Relays, 12 V Coil Voltage, 1400 mW Nominal Operating Power, -40 to 85 degC, 4-Pin LF-G, Carton, Case, RoHS; Manufacturer: Panasonic; PartNumber: ALFG2PF12; Coil Voltage: 12 V; Electrical Life: 3x10^4; Max Switching Current: 31 A AC; Max Switching Voltage: 250 V AC; Mechanical Life(Min.operation): 1x10^6; Nominal Operating Power: 1400 mW; Pb-Free: True; DatasheetVersion: 201402-T; PackageVersion: ASCTB196E, 02/2014; PackageReference: LF-G-4-3010x1570x2330; PackageDescription: 4-Pin Through Hole Terminal Package, Body 30.1 x 15.7 mm; Supplier 1: Mouser; Supplier Part Number 1: 769-ALFG2PF12; Supplier 2: Digi-Key; Supplier Part Number 2: 255-2638-ND; Packing: Carton, Case; RoHS: True; Series: LF-G Relays; Mounting Technology: Through Hole; ComponentLink1Description: Manufacturer URL; ComponentLink1URL: http://www3.panasonic.biz/ac/ae/index.jsp; ComponentLink2Description: Datasheet; ComponentLink2URL: http://www3.panasonic.biz/ac/e_download/control/relay/power/catalog/mech_eng_lfg.pdf?f_cd=300272; ComponentLink3Description: Package Specification; ComponentLink3URL: http://www3.panasonic.biz/ac/e_download/control/relay/power/catalog/mech_eng_lfg.pdf?f_cd=300272
footprint PNSC-LF-G-4-3010x1570x2330_V (LF-G, 4-Leads, Body 30.1x15.7mm)
pins: 1, 2, 3 NO, 4 COM